# Altium integrated library Altium_Fuse.IntLib: 46 symbols
Pins are listed as number, name and electrical type; pins without a type are passive.

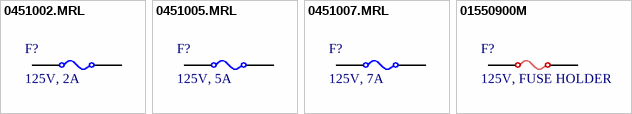
[diagram p0: symbols 0451002.MRL to 01550900M]

## 0451002.MRL
designator F?, comment 125V, 2A
Surface Mount Fuses 125VAC 2A .0367ohms 451 NANO2; Manufacturer: Littelfuse; Manufacturer Part Number: 0451002.MRL; Fuse Type: Fast Blow; Threshold Current: 50 A; ComponentLink1Description: Datasheet; ComponentLink1URL: https://www.mouser.com/datasheet/2/240/media-3320775.pdf; Hold Current: 2A; Supplier 1 URL: https://www.mouser.com/ProductDetail/Littelfuse/0451002.MRL?qs=KOeOmFnJLTp7piF6A1IXgQ%3D%3D; Supplier 2 URL: N/A; Supplier 3 URL: N/A; Threshold Voltage: 125 V; Value: 125V, 2A; Mount: SMT/SMD; Package / Case: 2410; Packaging: Tape and Reel; Supplier 1: Mouser; Supplier 1 Part Number: 576-0451002.MRL; Supplier 2: Digi-Key; Supplier 2 Part Number: N/A; Supplier 3: thegioiic; Supplier 3 Part Number: N/A; LCSC Part #: C99547
footprint FUSE_SMD_2410 (Chip Diode, 2-Leads, Body 6.10x2.70mm, IPC Medium Density)
pins: 0, 1

## 0451005.MRL
designator F?, comment 125V, 5A
Surface Mount Fuses 125VAC 5A .0367ohms 451 NANO2; Manufacturer: Littelfuse; Manufacturer Part Number: 0451005.MRL; Fuse Type: Fast Blow; Threshold Current: 50 A; ComponentLink1Description: Datasheet; ComponentLink1URL: https://www.mouser.com/datasheet/2/240/media-3320775.pdf; Hold Current: 5A; Supplier 1 URL: https://www.mouser.com/ProductDetail/Littelfuse/0451005.MRL?qs=bpnLQM2ZShz7kyOW1vb2Jg%3D%3D; Supplier 2 URL: N/A; Supplier 3 URL: N/A; Threshold Voltage: 125 V; Value: 125V, 5A; Mount: SMT/SMD; Package / Case: 2410; Packaging: Tape and Reel; Supplier 1: Mouser; Supplier 1 Part Number: 576-0451005.MRL; Supplier 2: Digi-Key; Supplier 2 Part Number: N/A; Supplier 3: thegioiic; Supplier 3 Part Number: N/A; LCSC Part #: C48467
footprint FUSE_SMD_2410 (Chip Diode, 2-Leads, Body 6.10x2.70mm, IPC Medium Density)
pins: 0, 1

## 0451007.MRL
designator F?, comment 125V, 7A
Surface Mount Fuses 125VAC 7A .0367ohms 451 NANO2; Manufacturer: Littelfuse; Manufacturer Part Number: 0451007.MRL; Fuse Type: Fast Blow; Threshold Current: 50 A; ComponentLink1Description: Datasheet; ComponentLink1URL: https://www.mouser.com/datasheet/2/240/media-3320775.pdf; Hold Current: 7A; Supplier 1 URL: https://www.mouser.com/ProductDetail/Littelfuse/0451002.MRL?qs=KOeOmFnJLTp7piF6A1IXgQ%3D%3D; Supplier 2 URL: N/A; Supplier 3 URL: N/A; Threshold Voltage: 125 V; Value: 125V, 7A; Mount: SMT/SMD; Package / Case: 2410; Packaging: Tape and Reel; Supplier 1: Mouser; Supplier 1 Part Number: 576-0451007.MRL; Supplier 2: Digi-Key; Supplier 2 Part Number: N/A; Supplier 3: thegioiic; Supplier 3 Part Number: N/A; LCSC Part #: C99548
footprint FUSE_SMD_2410 (Chip Diode, 2-Leads, Body 6.10x2.70mm, IPC Medium Density)
pins: 0, 1

## 01550900M
designator F?, comment 125V, FUSE HOLDER
Fuse Holder ACS NANO HLDR; Manufacturer: Littelfuse; Manufacturer Part Number: 01550900M; Fuse Type: Fast Blow; Hold Current: TBD; Threshold Current: 10 A; ComponentLink1Description: Datasheet; ComponentLink1URL: https://www.lcsc.com/datasheet/C108518.pdf; Supplier 1 URL: https://www.mouser.com/ProductDetail/Littelfuse/01550900M?qs=DDoybve0rC%252BTXq1hqi5X1g%3D%3D; Supplier 2 URL: N/A; Supplier 3 URL: N/A; Threshold Voltage: 125 V; Value: 125V, FUSE HOLDER; Mount: SMT/SMD; Package / Case: 2410; Packaging: Tape and Reel; Supplier 1: Mouser; Supplier 1 Part Number: 576-01550900M; Supplier 2: Digi-Key; Supplier 2 Part Number: N/A; Supplier 3: thegioiic; Supplier 3 Part Number: N/A; LCSC Part #: C108518
footprint 01550900M (Chip Diode, 2-Leads, Body 6.10x2.70mm, IPC Medium Density)
pins: 0, 1


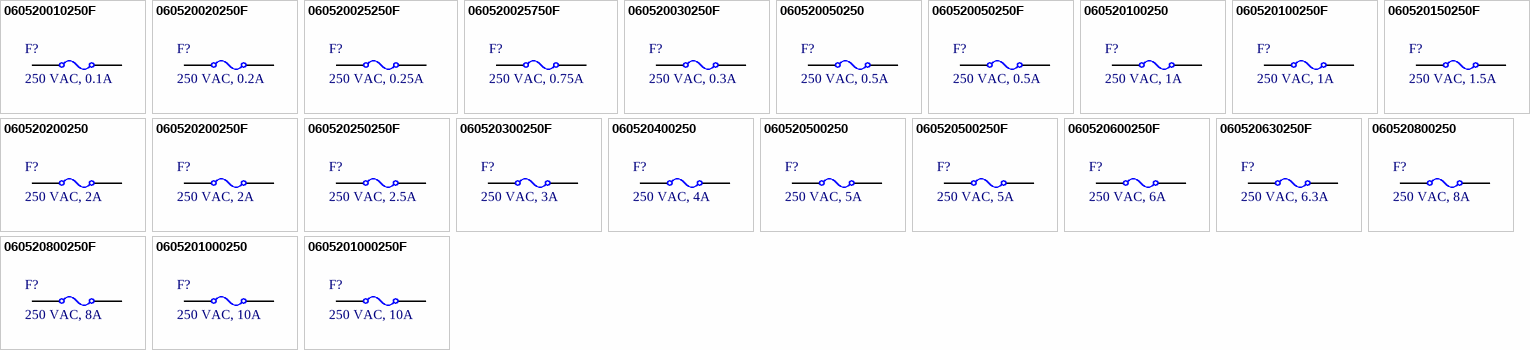
[diagram p1: symbols 060520010250F to 0605201000250F]

## 060520010250F
designator F?, comment 250 VAC, 0.1A
Glass Fuse, Size 0520, 250 VAC, 0.1A, F; Manufacturer: Bel Fuse; Manufacturer Part Number: 5ST100-R; Threshold Voltage: 250VAC; Threshold Current: 35A ( 250VAC); Hold Current: 0.1A; Fuse speed: F; ComponentLink1Description: Datasheet; ComponentLink1URL: https://www.belfuse.com/resources/datasheets/circuitprotection/ds-cp-5st-5stp-series.pdf; Supplier 1 URL: https://www.mouser.vn/ProductDetail/Bel-Fuse/5ST-100-R?qs=MvPYbBWWJysvyCTUIgtvFw%3D%3D; Supplier 2 URL: https://www.digikey.com/en/products/detail/bel-fuse-inc/5ST-100-R/1009010; Supplier 3 URL: https://www.thegioiic.com/cau-chi-ong-thuy-tinh-0-1a-5x20mm-toc-do-f; Value: 250 VAC, 0.1A; Operating Temperature Max: + 85 C; Operating Temperature Min: - 40 C; Package / Case: 0520; Packaging: Tape and Reel; Supplier 1: Mouser; Supplier 1 Part Number: 530-5ST100-R; Supplier 2: Digi-Key; Supplier 2 Part Number: 507-1238-ND; Supplier 3: thegioiic; Supplier 3 Part Number: N/A; Mount: Holder / Clip; LCSC Part #: N/A
footprint Fuse_Clip_0520 (Clip Fuse, Size 0520)
pins: 0, 1

## 060520020250F
designator F?, comment 250 VAC, 0.2A
Glass Fuse, Size 0520, 250 VAC, 0.2A, F; Manufacturer: Littelfuse; Manufacturer Part Number: 0217.200MXP; Threshold Voltage: 250VAC; Threshold Current: 35A ( 250VAC); Hold Current: 0.2A; Fuse speed: F; ComponentLink1Description: Datasheet; ComponentLink1URL: https://www.littelfuse.com/~/media/electronics/datasheets/fuses/littelfuse_fuse_217_datasheet.pdf.pdf; Supplier 1 URL: https://www.mouser.vn/ProductDetail/Littelfuse/0217.200MXP?qs=LpXnx4WbYtByvcMiHPFRdQ%3D%3D; Supplier 2 URL: https://www.digikey.com/en/products/detail/bel-fuse-inc/5MF-1-5-R/1009035; Supplier 3 URL: https://www.thegioiic.com/cau-chi-ong-thuy-tinh-0-2a-5x20mm-toc-do-f; Value: 250 VAC, 0.2A; Operating Temperature Max: + 85 C; Operating Temperature Min: - 40 C; Package / Case: 0520; Packaging: Tape and Reel; Supplier 1: Mouser; Supplier 1 Part Number: 576-0217.200MXP; Supplier 2: Digi-Key; Supplier 2 Part Number: 507-1263-ND; Supplier 3: thegioiic; Supplier 3 Part Number: N/A; Mount: Holder / Clip; LCSC Part #: N/A
footprint Fuse_Clip_0520 (Clip Fuse, Size 0520)
pins: 0, 1

## 060520025250F
designator F?, comment 250 VAC, 0.25A
Glass Fuse, Size 0520, 250 VAC, 0.25A, F; Manufacturer: Littelfuse; Manufacturer Part Number: 0217.250MXP; Threshold Voltage: 250VAC; Threshold Current: 35A ( 250VAC); Hold Current: 0.25A; Fuse speed: F; ComponentLink1Description: Datasheet; ComponentLink1URL: https://www.littelfuse.com/~/media/electronics/datasheets/fuses/littelfuse_fuse_217_datasheet.pdf.pdf; Supplier 1 URL: https://www.mouser.vn/ProductDetail/Littelfuse/0217.250MXP?qs=KOeOmFnJLTo%252BGMWHwtjXYA%3D%3D; Supplier 2 URL: https://www.digikey.com/en/products/detail/littelfuse-inc/0217-250MXP/777531?s=N4IgTCBcDaIAxgIwHYB0YCscCyANACiALoC%2BQA; Supplier 3 URL: https://www.thegioiic.com/cau-chi-ong-thuy-tinh-0-25a-5x20mm-toc-do-f; Value: 250 VAC, 0.25A; Operating Temperature Max: + 85 C; Operating Temperature Min: - 40 C; Package / Case: 0520; Packaging: Tape and Reel; Supplier 1: Mouser; Supplier 1 Part Number: 576-0217.250MXP; Supplier 2: Digi-Key; Supplier 2 Part Number: F1718-ND; Supplier 3: thegioiic; Supplier 3 Part Number: N/A; Mount: Holder / Clip; LCSC Part #: N/A
footprint Fuse_Clip_0520 (Clip Fuse, Size 0520)
pins: 0, 1

## 060520025750F
designator F?, comment 250 VAC, 0.75A
Glass Fuse, Size 0520, 250 VAC, 0.75A, F; Manufacturer: Bussmann / Eaton; Manufacturer Part Number: BK/GMA-750-R; Threshold Voltage: 250VAC; Threshold Current: 35A; Hold Current: 0.75A; Fuse speed: F; ComponentLink1Description: Datasheet; ComponentLink1URL: https://www.eaton.com/content/dam/eaton/products/electronic-components/resources/data-sheet/eaton-gma-time-delay-glass-tube-fuses-data-sheet.pdf; Supplier 1 URL: https://www.mouser.vn/ProductDetail/Bussmann-Eaton/BK-GMA-750-R?qs=St27ATL478tI49%252BCTEEZkw%3D%3D; Supplier 2 URL: https://www.digikey.com/en/products/detail/eaton-electronics-division/BK-GMA-750-R/1023987?s=N4IgTCBcDaIAQCEDSB6A4gWQIIFoDsArAAw4BKIAugL5A; Supplier 3 URL: https://www.thegioiic.com/cau-chi-ong-thuy-tinh-0-75a-5x20mm-toc-do-f; Value: 250 VAC, 0.75A; Operating Temperature Max: + 85 C; Operating Temperature Min: - 40 C; Package / Case: 0520; Packaging: Tape and Reel; Supplier 1: Mouser; Supplier 1 Part Number: 504-BK/GMA-750-R; Supplier 2: Digi-Key; Supplier 2 Part Number: 283-2869-ND; Supplier 3: thegioiic; Supplier 3 Part Number: N/A; Mount: Holder / Clip; LCSC Part #: N/A
footprint Fuse_Clip_0520 (Clip Fuse, Size 0520)
pins: 0, 1

## 060520030250F
designator F?, comment 250 VAC, 0.3A
Glass Fuse, Size 0520, 250 VAC, 0.3A, F; Manufacturer: Littelfuse; Manufacturer Part Number: 0235.300MXP; Threshold Voltage: 250VAC; Threshold Current: 10kA ( 125VAC); Hold Current: 0.3A; Fuse speed: F; ComponentLink1Description: Datasheet; ComponentLink1URL: https://www.littelfuse.com/~/media/electronics/datasheets/fuses/littelfuse_fuse_217_datasheet.pdf.pdf; Supplier 1 URL: https://www.mouser.vn/ProductDetail/Littelfuse/0235.300MXP?qs=qI%252BDxnNls1%2FlgYUhjxKUBg%3D%3D; Supplier 2 URL: https://www.digikey.com/en/products/detail/littelfuse-inc/0235-300MXP/778120?s=N4IgTCBcDaIAxgMwFYB0i5wLIA0AKIAugL5A; Supplier 3 URL: https://www.thegioiic.com/cau-chi-ong-thuy-tinh-0-3a-5x20mm-toc-do-f; Value: 250 VAC, 0.3A; Operating Temperature Max: + 85 C; Operating Temperature Min: - 40 C; Package / Case: 0520; Packaging: Tape and Reel; Supplier 1: Mouser; Supplier 1 Part Number: 576-0235.300MXP; Supplier 2: Digi-Key; Supplier 2 Part Number: F4717-ND; Supplier 3: thegioiic; Supplier 3 Part Number: N/A; Mount: Holder / Clip; LCSC Part #: N/A
footprint Fuse_Clip_0520 (Clip Fuse, Size 0520)
pins: 0, 1

## 060520050250
designator F?, comment 250 VAC, 0.5A
Ceramic Fuse, Size 0520, 250 VAC, 0.5A; Manufacturer: Littelfuse; Manufacturer Part Number: 0215.500MXP; Threshold Voltage: 250VAC; Threshold Current: 1,5kA (250VAC); Fuse speed: N; Hold Current: 0.5A; ComponentLink1Description: Datasheet; ComponentLink1URL: https://www.littelfuse.com/~/media/electronics/datasheets/fuses/littelfuse_fuse_217_datasheet.pdf.pdf; Supplier 1 URL: https://www.mouser.vn/ProductDetail/Littelfuse/0215.500MXP?qs=qI%252BDxnNls1%2Fdlp%2FQaMILDA%3D%3D; Supplier 2 URL: https://www.digikey.com/en/products/detail/littelfuse-inc/0215-500MXP/777422?s=N4IgTCBcDaIAxgIwFYB0y5wLIA0AKIAugL5A; Supplier 3 URL: https://www.thegioiic.com/cau-chi-su-0-5a-5x20mm; Value: 250 VAC, 0.5A; Operating Temperature Max: + 85 C; Operating Temperature Min: - 40 C; Package / Case: 0520; Packaging: Tape and Reel; Supplier 1: Mouser; Supplier 1 Part Number: 576-0215.500MXP; Supplier 2: Digi-Key; Supplier 2 Part Number: F3597-ND; Supplier 3: thegioiic; Supplier 3 Part Number: N/A; Mount: Holder / Clip; LCSC Part #: N/A
footprint Fuse_Clip_0520 (Clip Fuse, Size 0520)
pins: 0, 1

## 060520050250F
designator F?, comment 250 VAC, 0.5A
Glass Fuse, Size 0520, 250 VAC, 0.5A, F; Manufacturer: Littelfuse; Manufacturer Part Number: 0217.500HXP; Threshold Voltage: 250VAC; Threshold Current: 35A (250VAC); Hold Current: 0.5A; Fuse speed: F; ComponentLink1Description: Datasheet; ComponentLink1URL: https://www.littelfuse.com/~/media/electronics/datasheets/fuses/littelfuse_fuse_217_datasheet.pdf.pdf; Supplier 1 URL: https://www.mouser.vn/ProductDetail/Littelfuse/0217.500HXP?qs=LpXnx4WbYtBiNp2qBalYRA%3D%3D; Supplier 2 URL: https://www.digikey.com/en/products/detail/littelfuse-inc/0217-500HXP/777105?s=N4IgTCBcDaIAxgIwHYB0BWOcASANACiALoC%2BQA; Supplier 3 URL: https://www.thegioiic.com/cau-chi-ong-thuy-tinh-0-5a-5x20mm-toc-do-f; Value: 250 VAC, 0.5A; Operating Temperature Max: + 85 C; Operating Temperature Min: - 40 C; Package / Case: 0520; Packaging: Tape and Reel; Supplier 1: Mouser; Supplier 1 Part Number: 576-0217.500HXP; Supplier 2: Digi-Key; Supplier 2 Part Number: F2389-ND; Supplier 3: thegioiic; Supplier 3 Part Number: N/A; Mount: Holder / Clip; LCSC Part #: N/A
footprint Fuse_Clip_0520 (Clip Fuse, Size 0520)
pins: 0, 1

## 060520100250
designator F?, comment 250 VAC, 1A
Ceramic Fuse, Size 0520, 250 VAC, 1A; Manufacturer: Littelfuse; Manufacturer Part Number: 0215001.MXP; Threshold Voltage: 250VAC; Threshold Current: 1.5kA (250VAC); Fuse speed: N; Hold Current: 1A; ComponentLink1Description: Datasheet; ComponentLink1URL: https://www.littelfuse.com/~/media/electronics/datasheets/fuses/littelfuse_fuse_234_datasheet.pdf.pdf; Supplier 1 URL: https://www.mouser.vn/ProductDetail/Littelfuse/0215001.MXP?qs=ar9f0rk5DXA%2FCWd1HPfSGA%3D%3D; Supplier 2 URL: https://www.digikey.com/en/products/detail/littelfuse-inc/0215001-MXP/777431?s=N4IgTCBcDaIAxgIwFY50QOgLIA0AKIAugL5A; Supplier 3 URL: https://www.thegioiic.com/cau-chi-su-1a-5x20mm; Value: 250 VAC, 1A; Operating Temperature Max: + 85 C; Operating Temperature Min: - 40 C; Package / Case: 0520; Packaging: Tape and Reel; Supplier 1: Mouser; Supplier 1 Part Number: 576-0215001.MXP; Supplier 2: Digi-Key; Supplier 2 Part Number: F1696-ND; Supplier 3: thegioiic; Supplier 3 Part Number: N/A; Mount: Holder / Clip; LCSC Part #: N/A
footprint Fuse_Clip_0520 (Clip Fuse, Size 0520)
pins: 0, 1

## 060520100250F
designator F?, comment 250 VAC, 1A
Glass Fuse, Size 0520, 250 VAC, 1A, F; Manufacturer: Littelfuse; Manufacturer Part Number: 0217001.MXP; Threshold Voltage: 250VAC; Threshold Current: 35A (250VAC); Hold Current: 1A; Fuse speed: F; ComponentLink1Description: Datasheet; ComponentLink1URL: https://www.littelfuse.com/~/media/electronics/datasheets/fuses/littelfuse_fuse_234_datasheet.pdf.pdf; Supplier 1 URL: https://www.mouser.vn/ProductDetail/Littelfuse/0217001.MXP?qs=8QfiMw8FY5O6uJ5P97zz7g%3D%3D; Supplier 2 URL: https://www.digikey.com/en/products/detail/littelfuse-inc/0217001-MXP/777543?s=N4IgTCBcDaIAQAYwEYDsCHIHQFkAaACiALoC%2BQA; Supplier 3 URL: https://www.thegioiic.com/cau-chi-ong-thuy-tinh-1a-5x20mm-toc-do-f; Value: 250 VAC, 1A; Operating Temperature Max: + 85 C; Operating Temperature Min: - 40 C; Package / Case: 0520; Packaging: Tape and Reel; Supplier 1: Mouser; Supplier 1 Part Number: 576-0217001.MXP; Supplier 2: Digi-Key; Supplier 2 Part Number: F5929-ND; Supplier 3: thegioiic; Supplier 3 Part Number: N/A; Mount: Holder / Clip; LCSC Part #: N/A
footprint Fuse_Clip_0520 (Clip Fuse, Size 0520)
pins: 0, 1

## 060520150250F
designator F?, comment 250 VAC, 1.5A
Glass Fuse, Size 0520, 250 VAC, 1.5A, F; Manufacturer: Bel Fuse; Manufacturer Part Number: 0235.300MXP; Threshold Voltage: 250VAC; Threshold Current: 10kA ( 125VAC); Hold Current: 1.5A; Fuse speed: F; ComponentLink1Description: Datasheet; ComponentLink1URL: https://www.belfuse.com/resources/datasheets/circuitprotection/ds-cp-5mf-5mfp-series.pdf; Supplier 1 URL: https://www.mouser.vn/ProductDetail/Bel-Fuse/5MF-1.5-R?qs=MvPYbBWWJytyVTk9PnzKGA%3D%3D; Supplier 2 URL: https://www.digikey.com/en/products/detail/bel-fuse-inc/5MF-1-5-R/1009035; Supplier 3 URL: https://www.thegioiic.com/cau-chi-ong-thuy-tinh-1-5a-5x20mm-toc-do-f; Value: 250 VAC, 1.5A; Operating Temperature Max: + 85 C; Operating Temperature Min: - 40 C; Package / Case: 0520; Packaging: Tape and Reel; Supplier 1: Mouser; Supplier 1 Part Number: 576-0235.300MXP; Supplier 2: Digi-Key; Supplier 2 Part Number: F4717-ND; Supplier 3: thegioiic; Supplier 3 Part Number: N/A; Mount: Holder / Clip; LCSC Part #: N/A
footprint Fuse_Clip_0520 (Clip Fuse, Size 0520)
pins: 0, 1

## 060520200250
designator F?, comment 250 VAC, 2A
Ceramic Fuse, Size 0520, 250 VAC, 2A; Manufacturer: Littelfuse; Manufacturer Part Number: 0215002.HXP; Threshold Voltage: 250VAC; Threshold Current: 1.5kA (250VAC); Fuse speed: N; Hold Current: 2A; ComponentLink1Description: Datasheet; ComponentLink1URL: https://www.littelfuse.com/~/media/electronics/datasheets/fuses/littelfuse_fuse_234_datasheet.pdf.pdf; Supplier 1 URL: https://www.mouser.vn/ProductDetail/Littelfuse/0215002.HXP?qs=KOeOmFnJLTqrn80%2F88U61A%3D%3D; Supplier 2 URL: https://www.digikey.com/en/products/detail/littelfuse-inc/0215002-HXP/777432?s=N4IgTCBcDaIAxgIwFY4IHQAkAaAFEAugL5A; Supplier 3 URL: https://www.thegioiic.com/cau-chi-su-2a-5x20mm; Value: 250 VAC, 2A; Operating Temperature Max: + 85 C; Operating Temperature Min: - 40 C; Package / Case: 0520; Packaging: Tape and Reel; Supplier 1: Mouser; Supplier 1 Part Number: 576-0215002.HXP; Supplier 2: Digi-Key; Supplier 2 Part Number: F2662-ND; Supplier 3: thegioiic; Supplier 3 Part Number: N/A; Mount: Holder / Clip; LCSC Part #: N/A
footprint Fuse_Clip_0520 (Clip Fuse, Size 0520)
pins: 0, 1

## 060520200250F
designator F?, comment 250 VAC, 2A
Glass Fuse, Size 0520, 250 VAC, 2A, F; Manufacturer: Littelfuse; Manufacturer Part Number: 0217002.MXP; Threshold Voltage: 250VAC; Threshold Current: 35A (250VAC); Hold Current: 2A; Fuse speed: F; ComponentLink1Description: Datasheet; ComponentLink1URL: https://www.littelfuse.com/~/media/electronics/datasheets/fuses/littelfuse_fuse_234_datasheet.pdf.pdf; Supplier 1 URL: https://www.mouser.vn/ProductDetail/Littelfuse/0217002.MXP?qs=YKoktUZms5IWTPy42qy8YA%3D%3D; Supplier 2 URL: https://www.digikey.com/en/products/detail/littelfuse-inc/0217002-MXP/777545?s=N4IgTCBcDaIAQAYwEYDsCkDoCyANACiALoC%2BQA; Supplier 3 URL: https://www.thegioiic.com/cau-chi-ong-thuy-tinh-2a-5x20mm-toc-do-f; Value: 250 VAC, 2A; Operating Temperature Max: + 85 C; Operating Temperature Min: - 40 C; Package / Case: 0520; Packaging: Tape and Reel; Supplier 1: Mouser; Supplier 1 Part Number: 576-0217002.MXP; Supplier 2: Digi-Key; Supplier 2 Part Number: F1723-ND; Supplier 3: thegioiic; Supplier 3 Part Number: N/A; Mount: Holder / Clip; LCSC Part #: N/A
footprint Fuse_Clip_0520 (Clip Fuse, Size 0520)
pins: 0, 1

## 060520250250F
designator F?, comment 250 VAC, 2.5A
Glass Fuse, Size 0520, 250 VAC, 2.5A, F; Manufacturer: Littelfuse; Manufacturer Part Number: 021702.5TXP; Threshold Voltage: 250VAC; Threshold Current: 35A (250VAC); Hold Current: 2.5A; Fuse speed: F; ComponentLink1Description: Datasheet; ComponentLink1URL: https://www.littelfuse.com/~/media/electronics/datasheets/fuses/littelfuse_fuse_234_datasheet.pdf.pdf; Supplier 1 URL: https://www.mouser.vn/ProductDetail/Littelfuse/021702.5TXP?qs=Co4VkB5J4%2FtlATVasM8PdQ%3D%3D; Supplier 2 URL: https://www.digikey.com/en/products/detail/littelfuse-inc/021702-5TXP/3305622?s=N4IgTCBcDaIAxgIwHYEDoCsAVAGgBRAF0BfIA; Supplier 3 URL: https://www.thegioiic.com/cau-chi-ong-thuy-tinh-2-5a-5x20mm-toc-do-f; Value: 250 VAC, 2.5A; Operating Temperature Max: + 85 C; Operating Temperature Min: - 40 C; Package / Case: 0520; Packaging: Tape and Reel; Supplier 1: Mouser; Supplier 1 Part Number: 576-021702.5TXP; Supplier 2: Digi-Key; Supplier 2 Part Number: F4260-ND; Supplier 3: thegioiic; Supplier 3 Part Number: N/A; Mount: Holder / Clip; LCSC Part #: N/A
footprint Fuse_Clip_0520 (Clip Fuse, Size 0520)
pins: 0, 1

## 060520300250F
designator F?, comment 250 VAC, 3A
Glass Fuse, Size 0520, 250 VAC, 3A, F; Manufacturer: Littelfuse; Manufacturer Part Number: 0235003.HXP; Threshold Voltage: 250VAC; Threshold Current: 10kA (125VAC); Hold Current: 3A; Fuse speed: F; ComponentLink1Description: Datasheet; ComponentLink1URL: https://www.littelfuse.com/~/media/electronics/datasheets/fuses/littelfuse_fuse_234_datasheet.pdf.pdf; Supplier 1 URL: https://www.mouser.vn/ProductDetail/Littelfuse/0235003.HXP?qs=WtG364jHAdx3buZ4LbEsmg%3D%3D; Supplier 2 URL: https://www.digikey.com/en/products/detail/littelfuse-inc/0235003-HXP/778150?s=N4IgTCBcDaIAxgMwFY50QOgBIA0AKIAugL5A; Supplier 3 URL: https://www.thegioiic.com/cau-chi-ong-thuy-tinh-3a-5x20mm-toc-do-f; Value: 250 VAC, 3A; Operating Temperature Max: + 85 C; Operating Temperature Min: - 40 C; Package / Case: 0520; Packaging: Tape and Reel; Supplier 1: Mouser; Supplier 1 Part Number: 576-0235003.HXP; Supplier 2: Digi-Key; Supplier 2 Part Number: F2682-ND; Supplier 3: thegioiic; Supplier 3 Part Number: N/A; Mount: Holder / Clip; LCSC Part #: N/A
footprint Fuse_Clip_0520 (Clip Fuse, Size 0520)
pins: 0, 1

## 060520400250
designator F?, comment 250 VAC, 4A
Ceramic Fuse, Size 0520, 250 VAC, 4A; Manufacturer: Littelfuse; Manufacturer Part Number: 0215004.MXP; Threshold Voltage: 250VAC; Threshold Current: 1.5 kA (250VAC); Fuse speed: N; Hold Current: 4A; ComponentLink1Description: Datasheet; ComponentLink1URL: https://www.littelfuse.com/media?resourcetype=datasheets&itemid=a0d11841-302e-49a3-9086-a6d43e30edf0&filename=littelfuse-fuse-215-datasheet; Supplier 1 URL: https://www.mouser.vn/ProductDetail/Littelfuse/0215004.MXP?qs=bpnLQM2ZShyhLPqerLPL3g%3D%3D; Supplier 2 URL: https://www.digikey.com/en/products/detail/littelfuse-inc/0215004-MXP/777437?s=N4IgTCBcDaIAxgIwFY5wCwDoCyANACiALoC%2BQA; Supplier 3 URL: https://www.thegioiic.com/cau-chi-su-4a-5x20mm; Value: 250 VAC, 4A; Operating Temperature Max: + 85 C; Operating Temperature Min: - 40 C; Package / Case: 0520; Packaging: Tape and Reel; Supplier 1: Mouser; Supplier 1 Part Number: 576-0215004.MXP; Supplier 2: Digi-Key; Supplier 2 Part Number: F1697-ND; Supplier 3: thegioiic; Supplier 3 Part Number: N/A; Mount: Holder / Clip; LCSC Part #: N/A
footprint Fuse_Clip_0520 (Clip Fuse, Size 0520)
pins: 0, 1

## 060520500250
designator F?, comment 250 VAC, 5A
Ceramic Fuse, Size 0520, 250 VAC, 5A; Manufacturer: Littelfuse; Manufacturer Part Number: 0215005.HXP; Threshold Voltage: 250VAC; Threshold Current: 1.5kA (250VAC); Fuse speed: N; Hold Current: 5A; ComponentLink1Description: Datasheet; ComponentLink1URL: https://www.littelfuse.com/~/media/electronics/datasheets/fuses/littelfuse_fuse_234_datasheet.pdf.pdf; Supplier 1 URL: https://www.mouser.vn/ProductDetail/Littelfuse/0215005.HXP?qs=rkYlxpo0zrFldKFCO%252BlKVQ%3D%3D; Supplier 2 URL: https://www.digikey.com/en/products/detail/littelfuse-inc/0215005-HXP/777438?s=N4IgTCBcDaIAxgIwFY52QOgBIA0AKIAugL5A; Supplier 3 URL: https://www.thegioiic.com/cau-chi-su-5a-5x20mm; Value: 250 VAC, 5A; Operating Temperature Max: + 85 C; Operating Temperature Min: - 40 C; Package / Case: 0520; Packaging: Tape and Reel; Supplier 1: Mouser; Supplier 1 Part Number: 576-0215005.HXP; Supplier 2: Digi-Key; Supplier 2 Part Number: F2666-ND; Supplier 3: thegioiic; Supplier 3 Part Number: N/A; Mount: Holder / Clip; LCSC Part #: N/A
footprint Fuse_Clip_0520 (Clip Fuse, Size 0520)
pins: 0, 1

## 060520500250F
designator F?, comment 250 VAC, 5A
Glass Fuse, Size 0520, 250 VAC, 5A, F; Manufacturer: Littelfuse; Manufacturer Part Number: 0217005.MXP; Threshold Voltage: 250VAC; Threshold Current: 50A (125VAC); Hold Current: 5A; Fuse speed: F; ComponentLink1Description: Datasheet; ComponentLink1URL: https://www.littelfuse.com/~/media/electronics/datasheets/fuses/littelfuse_fuse_234_datasheet.pdf.pdf; Supplier 1 URL: https://www.mouser.vn/ProductDetail/Littelfuse/0217005.MXP?qs=8QfiMw8FY5N%2FZH431hpxSA%3D%3D; Supplier 2 URL: https://www.digikey.com/en/products/detail/littelfuse-inc/0217005-MXP/777549?s=N4IgTCBcDaIAQAYwEYDsCEFYB0BZAGgAogC6AvkA; Supplier 3 URL: https://www.thegioiic.com/cau-chi-ong-thuy-tinh-5a-5x20mm-toc-do-f; Value: 250 VAC, 5A; Operating Temperature Max: + 85 C; Operating Temperature Min: - 40 C; Package / Case: 0520; Packaging: Tape and Reel; Supplier 1: Mouser; Supplier 1 Part Number: 576-0217005.MXP; Supplier 2: Digi-Key; Supplier 2 Part Number: F1725-ND; Supplier 3: thegioiic; Supplier 3 Part Number: N/A; Mount: Holder / Clip; LCSC Part #: N/A
footprint Fuse_Clip_0520 (Clip Fuse, Size 0520)
pins: 0, 1

## 060520600250F
designator F?, comment 250 VAC, 6A
Glass Fuse, Size 0520, 250 VAC, 6A, F; Manufacturer: Littelfuse; Manufacturer Part Number: 0234006.MXP; Threshold Voltage: 250VAC; Threshold Current: 10kA (125VAC); Hold Current: 6A; Fuse speed: F; ComponentLink1Description: Datasheet; ComponentLink1URL: https://www.littelfuse.com/~/media/electronics/datasheets/fuses/littelfuse_fuse_234_datasheet.pdf.pdf; Supplier 1 URL: https://www.mouser.vn/ProductDetail/Littelfuse/0234006.MXP?qs=YKoktUZms5InNPE1Qna0Cg%3D%3D; Supplier 2 URL: https://www.digikey.com/en/products/detail/littelfuse-inc/0234006-MXP/778084; Supplier 3 URL: https://www.thegioiic.com/cau-chi-ong-thuy-tinh-6a-5x20mm-toc-do-f; Value: 250 VAC, 6A; Operating Temperature Max: + 85 C; Operating Temperature Min: - 40 C; Package / Case: 0520; Packaging: Tape and Reel; Supplier 1: Mouser; Supplier 1 Part Number: 576-0234006.MXP; Supplier 2: Digi-Key; Supplier 2 Part Number: F2694-ND; Supplier 3: thegioiic; Supplier 3 Part Number: N/A; Mount: Holder / Clip; LCSC Part #: N/A
footprint Fuse_Clip_0520 (Clip Fuse, Size 0520)
pins: 0, 1

## 060520630250F
designator F?, comment 250 VAC, 6.3A
Glass Fuse, Size 0520, 250 VAC, 6.3A, F; Manufacturer: Littelfuse; Manufacturer Part Number: 021706.3VXP; Threshold Voltage: 250VAC; Threshold Current: 63A (250VAC); Hold Current: 6.3A; Fuse speed: F; ComponentLink1Description: Datasheet; ComponentLink1URL: https://www.littelfuse.com/~/media/electronics/datasheets/fuses/littelfuse_fuse_234_datasheet.pdf.pdf; Supplier 1 URL: https://www.mouser.vn/ProductDetail/Littelfuse/021706.3VXP?qs=Vv6sT79n3zQZ1wGK5TThFg%3D%3D; Supplier 2 URL: https://www.digikey.com/en/products/detail/littelfuse-inc/021706-3VXP/3424969?s=N4IgTCBcDaIAxgIwHY4DYB0BmAagDQAUQBdAXyA; Supplier 3 URL: https://www.thegioiic.com/cau-chi-ong-thuy-tinh-6-3a-5x20mm-toc-do-f; Value: 250 VAC, 6.3A; Operating Temperature Max: + 85 C; Operating Temperature Min: - 40 C; Package / Case: 0520; Packaging: Tape and Reel; Supplier 1: Mouser; Supplier 1 Part Number: 576-021706.3VXP; Supplier 2: Digi-Key; Supplier 2 Part Number: F11027-ND; Supplier 3: thegioiic; Supplier 3 Part Number: N/A; Mount: Holder / Clip; LCSC Part #: N/A
footprint Fuse_Clip_0520 (Clip Fuse, Size 0520)
pins: 0, 1

## 060520800250
designator F?, comment 250 VAC, 8A
Ceramic Fuse, Size 0520, 250 VAC, 8A; Manufacturer: Littelfuse; Manufacturer Part Number: 0215008.MXP; Threshold Voltage: 250VAC; Threshold Current: 1.5kA (250VAC); Fuse speed: N; Hold Current: 8A; ComponentLink1Description: Datasheet; ComponentLink1URL: https://www.littelfuse.com/~/media/electronics/datasheets/fuses/littelfuse_fuse_234_datasheet.pdf.pdf; Supplier 1 URL: https://www.mouser.vn/ProductDetail/Littelfuse/0215008.MXP?qs=qI%252BDxnNls18xZY24y8bA3A%3D%3D; Supplier 2 URL: https://www.digikey.com/en/products/detail/littelfuse-inc/0215008-MXP/777443?s=N4IgTCBcDaIAQAYwEYCsCEA4B0BZAGgAogC6AvkA; Supplier 3 URL: https://www.thegioiic.com/cau-chi-su-8a-5x20mm; Value: 250 VAC, 8A; Operating Temperature Max: + 85 C; Operating Temperature Min: - 40 C; Package / Case: 0520; Packaging: Tape and Reel; Supplier 1: Mouser; Supplier 1 Part Number: 576-0215008.MXP; Supplier 2: Digi-Key; Supplier 2 Part Number: F4613-ND; Supplier 3: thegioiic; Supplier 3 Part Number: N/A; Mount: Holder / Clip; LCSC Part #: N/A
footprint Fuse_Clip_0520 (Clip Fuse, Size 0520)
pins: 0, 1

## 060520800250F
designator F?, comment 250 VAC, 8A
Glass Fuse, Size 0520, 250 VAC, 8A, F; Manufacturer: Littelfuse; Manufacturer Part Number: 0217008.MXP; Threshold Voltage: 250VAC; Threshold Current: 80A (125VAC); Hold Current: 8A; Fuse speed: F; ComponentLink1Description: Datasheet; ComponentLink1URL: https://www.littelfuse.com/~/media/electronics/datasheets/fuses/littelfuse_fuse_234_datasheet.pdf.pdf; Supplier 1 URL: https://www.mouser.vn/ProductDetail/Littelfuse/0217008.MXP?qs=8QfiMw8FY5N6Hjj4UqrSQw%3D%3D; Supplier 2 URL: https://www.digikey.com/en/products/detail/littelfuse-inc/0217008-MXP/777551?s=N4IgTCBcDaIAxgIwHY5wBwDoCyANACiALoC%2BQA; Supplier 3 URL: https://www.thegioiic.com/cau-chi-ong-thuy-tinh-8a-5x20mm-toc-do-f; Value: 250 VAC, 8A; Operating Temperature Max: + 85 C; Operating Temperature Min: - 40 C; Package / Case: 0520; Packaging: Tape and Reel; Supplier 1: Mouser; Supplier 1 Part Number: 576-0217008.MXP; Supplier 2: Digi-Key; Supplier 2 Part Number: F4635-ND; Supplier 3: thegioiic; Supplier 3 Part Number: N/A; Mount: Holder / Clip; LCSC Part #: N/A
footprint Fuse_Clip_0520 (Clip Fuse, Size 0520)
pins: 0, 1

## 0605201000250
designator F?, comment 250 VAC, 10A
Ceramic Fuse, Size 0520, 250 VAC, 10A; Manufacturer: Littelfuse; Manufacturer Part Number: 0215010.MXP; Threshold Voltage: 250VAC; Threshold Current: 1.5kA (250VAC); Fuse speed: N; Hold Current: 10A; ComponentLink1Description: Datasheet; ComponentLink1URL: https://www.littelfuse.com/~/media/electronics/datasheets/fuses/littelfuse_fuse_234_datasheet.pdf.pdf; Supplier 1 URL: https://www.mouser.vn/ProductDetail/Littelfuse/0215010.MXP?qs=qI%252BDxnNls1%252BmXG81o%252BQ0mA%3D%3D; Supplier 2 URL: https://www.digikey.com/en/products/detail/littelfuse-inc/0215010-MXP/777449; Supplier 3 URL: https://www.thegioiic.com/cau-chi-su-10a-5x20mm; Value: 250 VAC, 10A; Operating Temperature Max: + 85 C; Operating Temperature Min: - 40 C; Package / Case: 0520; Packaging: Tape and Reel; Supplier 1: Mouser; Supplier 1 Part Number: 576-0215010.MXP; Supplier 2: Digi-Key; Supplier 2 Part Number: F1699-ND; Supplier 3: thegioiic; Supplier 3 Part Number: N/A; Mount: Holder / Clip; LCSC Part #: N/A
footprint Fuse_Clip_0520 (Clip Fuse, Size 0520)
pins: 0, 1

## 0605201000250F
designator F?, comment 250 VAC, 10A
Glass Fuse, Size 0520, 250 VAC, 10A, F; Manufacturer: Littelfuse; Manufacturer Part Number: 0218010.HXP; Threshold Voltage: 250VAC; Threshold Current: 100A (125VAC); Hold Current: 10A; Fuse speed: F; ComponentLink1Description: Datasheet; ComponentLink1URL: https://www.littelfuse.com/~/media/electronics/datasheets/fuses/littelfuse_fuse_234_datasheet.pdf.pdf; Supplier 1 URL: https://www.mouser.vn/ProductDetail/Littelfuse/0218010.HXP?qs=YKoktUZms5K5aEWQkceb8A%3D%3D; Supplier 2 URL: https://www.digikey.com/en/products/detail/littelfuse-inc/0218010-HXP/777141?s=N4IgTCBcDaIAxgIwA46LgOgBIA0AKIAugL5A; Supplier 3 URL: https://www.thegioiic.com/cau-chi-ong-thuy-tinh-10a-5x20mm-toc-do-f; Value: 250 VAC, 10A; Operating Temperature Max: + 85 C; Operating Temperature Min: - 40 C; Package / Case: 0520; Packaging: Tape and Reel; Supplier 1: Mouser; Supplier 1 Part Number: 576-0218010.HXP; Supplier 2: Digi-Key; Supplier 2 Part Number: F2425-ND; Supplier 3: thegioiic; Supplier 3 Part Number: N/A; Mount: Holder / Clip; LCSC Part #: N/A
footprint Fuse_Clip_0520 (Clip Fuse, Size 0520)
pins: 0, 1


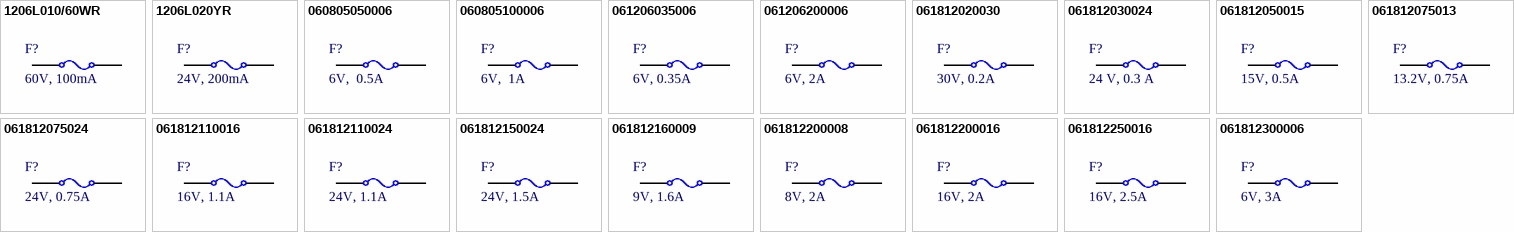
[diagram p2: symbols 1206L010/60WR to 061812300006]

## 1206L010/60WR
designator F?, comment 60V, 100mA
60V 100mA 10A 250mA 1206 Resettable Fuses ROHS; Manufacturer: Littelfuse; Manufacturer Part Number: 1206L010/60WR; Threshold Voltage: 60 V; Threshold Current: 10 A; Hold Current: 100 mA; Trip Current: 250 mA; ComponentLink1Description: Datasheet; ComponentLink1URL: https://lcsc.com/datasheet/lcsc_datasheet_2410121838_Littelfuse-1206L020YR_C207035.pdf; Supplier 1 URL: https://www.mouser.com/ProductDetail/Littelfuse/1206L010-60WR?qs=lM4gFlnEeENS8o0%252BVJMwxw%3D%3D; Supplier 2 URL: https://www.digikey.com/en/products/detail/littelfuse-inc/1206l010-60wr/6234811; Supplier 3 URL: N/A; Value: 60V, 100mA; Mount: SMD/SMT; Package / Case: 1206; Packaging: Tape and Reel; Supplier 1: Mouser; Supplier 1 Part Number: 576-1206L010/60WR; Supplier 2: Digi-Key; Supplier 2 Part Number: F8130TR-ND; Supplier 3: thegioiic; Supplier 3 Part Number: N/A; LCSC Part #: C2153714
footprint Fuse_SMD_1206 (Fuse SMD, size 1206)
pins: 0, 1

## 1206L020YR
designator F?, comment 24V, 200mA
24V 200mA 100A 420mA 1206 Resettable Fuses ROHS; Manufacturer: Littelfuse; Manufacturer Part Number: 1206L020YR; Threshold Voltage: 24 V; Threshold Current: 100 A; Hold Current: 200 mA; Trip Current: 420 mA; ComponentLink1Description: Datasheet; ComponentLink1URL: https://lcsc.com/datasheet/lcsc_datasheet_2410121838_Littelfuse-1206L020YR_C207035.pdf; Supplier 1 URL: https://www.mouser.com/ProductDetail/Littelfuse/1206L020YR?qs=PWhpLWeW8we48TZL2V8mHQ%3D%3D; Supplier 2 URL: https://www.digikey.com/en/products/detail/littelfuse-inc/1206l020yr/455695; Supplier 3 URL: N/A; Value: 24V, 200mA; Mount: SMD/SMT; Package / Case: 1206; Packaging: Tape and Reel; Supplier 1: Mouser; Supplier 1 Part Number: 576-1206L020YR; Supplier 2: Digi-Key; Supplier 2 Part Number: F2109TR-ND; Supplier 3: thegioiic; Supplier 3 Part Number: N/A; LCSC Part #: C207035
footprint Fuse_SMD_1206 (Fuse SMD, size 1206)
pins: 0, 1

## 060805050006
designator F?, comment 6V,  0.5A
Resettable Fuse, Size 0805, 6V, 0.5A; Manufacturer: Littelfuse; Manufacturer Part Number: 0805L050; Threshold Current: 100A; Trip Current: 1A; Threshold Voltage: 6V; Hold Current: 0.5A; ComponentLink1Description: Datasheet; ComponentLink1URL: https://www.littelfuse.com/~/media/electronics/datasheets/resettable_ptcs/littelfuse_ptc_0805l_datasheet.pdf.pdf; Supplier 1 URL: https://www.mouser.vn/ProductDetail/Littelfuse/0805L050WR?qs=SJZ%252BTX%252BI2BS1ufZ22HRodg%3D%3D; Supplier 2 URL: https://www.mouser.vn/ProductDetail/Littelfuse/0805L050WR?qs=SJZ%252BTX%252BI2BS1ufZ22HRodg%3D%3D; Supplier 3 URL: https://www.thegioiic.com/0805l050wr-cau-chi-tu-phuc-hoi-0805-6v-500ma; Value: 6V,  0.5A; Mount: SMD/SMT; Package / Case: 0805; Packaging: Tape and Reel; Supplier 1: Mouser; Supplier 1 Part Number: 576-0805L050; Supplier 2: Digi-Key; Supplier 2 Part Number: F2772TR-ND; Supplier 3: thegioiic; Supplier 3 Part Number: 0805L050WR; LCSC Part #: N/A
footprint Fuse_SMD_0805 (Fuse SMD, size 0805)
pins: 0, 1

## 060805100006
designator F?, comment 6V,  1A
Resettable Fuse, Size 0805, 6V, 1A; Manufacturer: Littelfuse; Manufacturer Part Number: 0805L100; Threshold Current: 40A; Trip Current: 1.95A; Threshold Voltage: 6V; Hold Current: 1A; ComponentLink1Description: Datasheet; ComponentLink1URL: https://www.littelfuse.com/~/media/electronics/datasheets/resettable_ptcs/littelfuse_ptc_0805l_datasheet.pdf.pdf; Supplier 1 URL: https://www.mouser.vn/ProductDetail/Littelfuse/0805L100WR?qs=SJZ%252BTX%252BI2BTMlREVsW49pQ%3D%3D; Supplier 2 URL: https://www.mouser.vn/ProductDetail/Littelfuse/0805L100WR?qs=SJZ%252BTX%252BI2BTMlREVsW49pQ%3D%3D; Supplier 3 URL: https://www.thegioiic.com/0805l100wr-cau-chi-tu-phuc-hoi-0805-6v-1a; Value: 6V,  1A; Mount: SMD/SMT; Package / Case: 0805; Packaging: Tape and Reel; Supplier 1: Mouser; Supplier 1 Part Number: 576-0805L100; Supplier 2: Digi-Key; Supplier 2 Part Number: F2774TR-ND; Supplier 3: thegioiic; Supplier 3 Part Number: 0805L100WR; LCSC Part #: N/A
footprint Fuse_SMD_0805 (Fuse SMD, size 0805)
pins: 0, 1

## 061206035006
designator F?, comment 6V, 0.35A
Resettable Fuse, Size 1206, 6V, 0.35A; Manufacturer: Bourns; Manufacturer Part Number: MF-NSMF035-2; Threshold Current: 100A; Trip Current: 0.75A; Threshold Voltage: 6V; Hold Current: 0.35A; ComponentLink1Description: Datasheet; ComponentLink1URL: https://www.bourns.com/docs/Product-Datasheets/mfnsmf.pdf; Supplier 1 URL: https://www.mouser.vn/ProductDetail/Bourns/MF-NSMF035-2?qs=3eVyCPG4fwnHDrvs%2FGppSw%3D%3D; Supplier 2 URL: https://www.mouser.vn/ProductDetail/Bourns/MF-NSMF035-2?qs=3eVyCPG4fwnHDrvs%2FGppSw%3D%3D; Supplier 3 URL: https://www.thegioiic.com/mf-nsmf035-2-cau-chi-tu-phuc-hoi-1206-6v-0-35a; Value: 6V, 0.35A; Mount: SMD/SMT; Package / Case: 1206; Packaging: Tape and Reel; Supplier 1: Mouser; Supplier 1 Part Number: 652-MF-NSMF035-2; Supplier 2: Digi-Key; Supplier 2 Part Number: MF-NSMF035-2TR-ND; Supplier 3: thegioiic; Supplier 3 Part Number: MF-NSMF035-2; LCSC Part #: N/A
footprint Fuse_SMD_1206 (Fuse SMD, size 1206)
pins: 0, 1

## 061206200006
designator F?, comment 6V, 2A
Resettable Fuse, Size 1206, 6V, 2A; Manufacturer: Bourns; Manufacturer Part Number: MF-NSMF200-2; Threshold Current: 100A; Trip Current: 4A; Threshold Voltage: 6V; Hold Current: 2A; ComponentLink1Description: Datasheet; ComponentLink1URL: https://www.bourns.com/docs/product-datasheets/mf-nsmf.pdf?sfvrsn=39c76af6_20; Supplier 1 URL: https://www.mouser.vn/ProductDetail/Bourns/MF-NSMF200-2?qs=49157WxD7wmY0%2FO7FNMvtw%3D%3D; Supplier 2 URL: https://www.mouser.vn/ProductDetail/Bourns/MF-NSMF200-2?qs=49157WxD7wmY0%2FO7FNMvtw%3D%3D; Supplier 3 URL: https://www.thegioiic.com/mf-nsmf200-2-cau-chi-tu-phuc-hoi-1206-6v-2a; Value: 6V, 2A; Mount: SMD/SMT; Package / Case: 1206; Packaging: Tape and Reel; Supplier 1: Mouser; Supplier 1 Part Number: 652-MF-NSMF200-2; Supplier 2: Digi-Key; Supplier 2 Part Number: MF-NSMF200-2TR-ND; Supplier 3: thegioiic; Supplier 3 Part Number: MF-NSMF200-2; LCSC Part #: N/A
footprint Fuse_SMD_1206 (Fuse SMD, size 1206)
pins: 0, 1

## 061812020030
designator F?, comment 30V, 0.2A
Resettable Fuse, Size 1812, 30V, 0.2A; Manufacturer: Bourns; Manufacturer Part Number: MF-MSMF020-2; Threshold Current: 80A; Trip Current: 0.4A; Threshold Voltage: 30V; Hold Current: 0.2A; ComponentLink1Description: Datasheet; ComponentLink1URL: https://www.bourns.com/docs/Product-Datasheets/mfnsmf.pdf; Supplier 1 URL: https://www.mouser.vn/ProductDetail/Bourns/MF-MSMF020-2?qs=YYkh393lUtjbPn24kFIUNQ%3D%3D; Supplier 2 URL: https://www.mouser.vn/ProductDetail/Bourns/MF-MSMF020-2?qs=YYkh393lUtjbPn24kFIUNQ%3D%3D; Supplier 3 URL: https://www.thegioiic.com/mf-msmf020-2-cau-chi-tu-phuc-hoi-1812-0-20a-30v; Value: 30V, 0.2A; Mount: SMD/SMT; Package / Case: 1812; Packaging: Tape and Reel; Supplier 1: Mouser; Supplier 1 Part Number: 652-MF-MSMF020-2; Supplier 2: Digi-Key; Supplier 2 Part Number: MF-MSMF020-2TR-ND; Supplier 3: thegioiic; Supplier 3 Part Number: MF-MSMF020-2; LCSC Part #: C35456
footprint Fuse_SMD_1812 (Fuse SMD, size 1812)
pins: 0, 1

## 061812030024
designator F?, comment 24 V, 0.3 A
Resettable Fuse, Size 1812, 24V, 1.1A; Manufacturer: Bourns; Manufacturer Part Number: MF-MSMF030-2; Threshold Current: 10 A; Hold Current: 300 mA; Trip Current: 600 mA; Threshold Voltage: 24V; ComponentLink1Description: Datasheet; ComponentLink1URL: https://www.bourns.com/docs/Product-Datasheets/mfnsmf.pdf; Supplier 1 URL: https://www.mouser.com/ProductDetail/Bourns/MF-MSMF030-2?qs=4Enggx7jqVwuh3vnyeU3lA%3D%3D; Supplier 2 URL: https://www.digikey.com/en/products/detail/bourns-inc/mf-msmf030-2/662815; Supplier 3 URL: N/A; Value: 24 V, 0.3 A; Mount: SMD/SMT; Package / Case: 1812; Packaging: Tape and Reel; Supplier 1: Mouser; Supplier 1 Part Number: 652-MF-MSMF030-2; Supplier 2: Digi-Key; Supplier 2 Part Number: MF-MSMF030-2TR-ND; Supplier 3: thegioiic; Supplier 3 Part Number: N/A; LCSC Part #: C12604
footprint Fuse_SMD_1812 (Fuse SMD, size 1812)
pins: 0, 1

## 061812050015
designator F?, comment 15V, 0.5A
Resettable Fuse, Size 1812, 15V, 0.5A; Manufacturer: Bourns; Manufacturer Part Number: MF-MSMF050-2; Threshold Current: 100A; Trip Current: 1A; Threshold Voltage: 15V; Hold Current: 0.5A; ComponentLink1Description: Datasheet; ComponentLink1URL: https://www.bourns.com/docs/Product-Datasheets/mfnsmf.pdf; Supplier 1 URL: https://www.mouser.vn/ProductDetail/Bourns/MF-MSMF050-2?qs=t3shhpq1i1DZ7OBD5kLNoA%3D%3D; Supplier 2 URL: https://www.mouser.vn/ProductDetail/Bourns/MF-MSMF050-2?qs=t3shhpq1i1DZ7OBD5kLNoA%3D%3D; Supplier 3 URL: https://www.thegioiic.com/mf-msmf050-2-cau-chi-tu-phuc-hoi-1812-15v-0-5a; Value: 15V, 0.5A; Mount: SMD/SMT; Package / Case: 1812; Packaging: Tape and Reel; Supplier 1: Mouser; Supplier 1 Part Number: 652-MF-MSMF050-2; Supplier 2: Digi-Key; Supplier 2 Part Number: MF-MSMF050-2TR-ND; Supplier 3: thegioiic; Supplier 3 Part Number: MF-MSMF050-2; LCSC Part #: C17313
footprint Fuse_SMD_1812 (Fuse SMD, size 1812)
pins: 0, 1

## 061812075013
designator F?, comment 13.2V, 0.75A
Resettable Fuse, Size 1812, 13.2V, 0.75A; Manufacturer: Littelfuse; Manufacturer Part Number: MINISMDC075F-2; Threshold Voltage: 13V; Threshold Current: 100A; Trip Current: 1.5A; Hold Current: 0.75A; ComponentLink1Description: Datasheet; ComponentLink1URL: https://www.littelfuse.com/~/media/electronics/product_specifications/resettable_ptcs/littelfuse_ptc_minismdc075f_2_product_specification.pdf.pdf; Supplier 1 URL: https://www.mouser.vn/ProductDetail/Littelfuse/MINISMDC075F-2?qs=k5V78Jg%2Feq6mspvURJRgsw%3D%3D; Supplier 2 URL: https://www.mouser.vn/ProductDetail/Littelfuse/MINISMDC075F-2?qs=k5V78Jg%2Feq6mspvURJRgsw%3D%3D; Supplier 3 URL: https://www.thegioiic.com/minismdc075f-2-cau-chi-tu-phuc-hoi-1812-13v-750ma; Value: 13.2V, 0.75A; Mount: SMD/SMT; Package / Case: 1812; Packaging: Tape and Reel; Supplier 1: Mouser; Supplier 1 Part Number: 650-MINISMDC075F-2; Supplier 2: Digi-Key; Supplier 2 Part Number: MINISMDC075F-2TR-ND; Supplier 3: thegioiic; Supplier 3 Part Number: MINISMDC075F-2; LCSC Part #: N/A
footprint Fuse_SMD_1812 (Fuse SMD, size 1812)
pins: 0, 1

## 061812075024
designator F?, comment 24V, 0.75A
Resettable Fuse, Size 1812, 24V, 0.75A; Manufacturer: Bourns; Manufacturer Part Number: MF-MSMF075/24-2; Threshold Current: 40A; Trip Current: 1.5A; Threshold Voltage: 24V; Hold Current: 0.75A; ComponentLink1Description: Datasheet; ComponentLink1URL: https://www.bourns.com/docs/Product-Datasheets/mfnsmf.pdf; Supplier 1 URL: https://www.mouser.vn/ProductDetail/Bourns/MF-MSMF075-24-2?qs=4wQOTo1SlKkr8xXCy%2FQ4UA%3D%3D; Supplier 2 URL: https://www.mouser.vn/ProductDetail/Bourns/MF-MSMF075-24-2?qs=4wQOTo1SlKkr8xXCy%2FQ4UA%3D%3D; Supplier 3 URL: https://www.thegioiic.com/mf-msmf075-24-2-cau-chi-tu-phuc-hoi-1812-24v-0-75a; Value: 24V, 0.75A; Mount: SMD/SMT; Package / Case: 1812; Packaging: Tape and Reel; Supplier 1: Mouser; Supplier 1 Part Number: 652-MF-MSMF075/24-2; Supplier 2: Digi-Key; Supplier 2 Part Number: MF-MSMF075/24-2TR-ND; Supplier 3: thegioiic; Supplier 3 Part Number: MF-MSMF075/24-2; LCSC Part #: C208467
footprint Fuse_SMD_1812 (Fuse SMD, size 1812)
pins: 0, 1

## 061812110016
designator F?, comment 16V, 1.1A
Resettable Fuse, Size 1812, 16V, 1.1A; Manufacturer: Bourns; Manufacturer Part Number: MF-MSMF110/16-2; Threshold Current: 100A; Trip Current: 2.2A; Threshold Voltage: 16V; Hold Current: 1.1A; ComponentLink1Description: Datasheet; ComponentLink1URL: https://www.bourns.com/docs/Product-Datasheets/mfnsmf.pdf; Supplier 1 URL: https://www.mouser.vn/ProductDetail/Bourns/MF-MSMF110-16-2?qs=wksszfECgvir54ST3ixUHA%3D%3D; Supplier 2 URL: https://www.mouser.vn/ProductDetail/Bourns/MF-MSMF110-16-2?qs=wksszfECgvir54ST3ixUHA%3D%3D; Supplier 3 URL: https://www.thegioiic.com/mf-msmf110-16-2-cau-chi-tu-phuc-hoi-1812-16v-1-1a; Value: 16V, 1.1A; Mount: SMD/SMT; Package / Case: 1812; Packaging: Tape and Reel; Supplier 1: Mouser; Supplier 1 Part Number: 652-MF-MSMF110/16-2; Supplier 2: Digi-Key; Supplier 2 Part Number: MF-MSMF110/16-2TR-ND; Supplier 3: thegioiic; Supplier 3 Part Number: MF-MSMF110/16-2; LCSC Part #: N/A
footprint Fuse_SMD_1812 (Fuse SMD, size 1812)
pins: 0, 1

## 061812110024
designator F?, comment 24V, 1.1A
Resettable Fuse, Size 1812, 24V, 1.1A; Manufacturer: Bourns; Manufacturer Part Number: MF-MSMF110/24X-2; Threshold Current: 20A; Trip Current: 2.2A; Threshold Voltage: 24V; Hold Current: 1.1A; ComponentLink1Description: Datasheet; ComponentLink1URL: https://www.bourns.com/docs/Product-Datasheets/mfnsmf.pdf; Supplier 1 URL: https://www.mouser.vn/ProductDetail/Bourns/MF-MSMF110-24X-2?qs=tiksPeNXt0KSvkNsPEvQzw%3D%3D; Supplier 2 URL: https://www.mouser.vn/ProductDetail/Bourns/MF-MSMF110-24X-2?qs=tiksPeNXt0KSvkNsPEvQzw%3D%3D; Supplier 3 URL: https://www.thegioiic.com/mf-msmf110-24x-2-cau-chi-tu-phuc-hoi-1812-24v-1-1a; Value: 24V, 1.1A; Mount: SMD/SMT; Package / Case: 1812; Packaging: Tape and Reel; Supplier 1: Mouser; Supplier 1 Part Number: 652-MF-MSMF110/24X-2; Supplier 2: Digi-Key; Supplier 2 Part Number: MF-MSMF110/24X-2TR-ND; Supplier 3: thegioiic; Supplier 3 Part Number: MF-MSMF110/24X-2; LCSC Part #: C210835
footprint Fuse_SMD_1812 (Fuse SMD, size 1812)
pins: 0, 1

## 061812150024
designator F?, comment 24V, 1.5A
Resettable Fuse, Size 1812, 24V, 1.5A; Manufacturer: Littelfuse; Manufacturer Part Number: MINISMDC150F/24; Threshold Current: 20A; Trip Current: 3A; Threshold Voltage: 24V; Hold Current: 1.5A; ComponentLink1Description: Datasheet; ComponentLink1URL: https://www.littelfuse.com/~/media/electronics/product_specifications/resettable_ptcs/littelfuse_ptc_minismdc300f_2_product_specification.pdf.pdf; Supplier 1 URL: https://www.mouser.vn/ProductDetail/Littelfuse/MINISMDC150F-24-2?qs=F6FIpiMdEVZ%2Fp37J%2FDHAxA%3D%3D; Supplier 2 URL: https://www.mouser.vn/ProductDetail/Littelfuse/MINISMDC150F-24-2?qs=F6FIpiMdEVZ%2Fp37J%2FDHAxA%3D%3D; Supplier 3 URL: https://www.thegioiic.com/cau-chi-tu-phuc-hoi-1812-24v-1-5a; Value: 24V, 1.5A; Mount: SMD/SMT; Package / Case: 1812; Packaging: Tape and Reel; Supplier 1: Mouser; Supplier 1 Part Number: 650-MINISMDC150F/24; Supplier 2: Digi-Key; Supplier 2 Part Number: MINISMDC150F24-2TR-ND; Supplier 3: thegioiic; Supplier 3 Part Number: N/A; LCSC Part #: N/A
footprint Fuse_SMD_1812 (Fuse SMD, size 1812)
pins: 0, 1

## 061812160009
designator F?, comment 9V, 1.6A
Resettable Fuse, Size 1812, 9V, 1.6A; Manufacturer: Littelfuse; Manufacturer Part Number: MINISMDC160F-2; Threshold Current: 100A; Trip Current: 3.2A; Threshold Voltage: 9V; Hold Current: 1.6A; ComponentLink1Description: Datasheet; ComponentLink1URL: https://www.littelfuse.com/~/media/electronics/product_specifications/resettable_ptcs/littelfuse_ptc_minismdc300f_2_product_specification.pdf.pdf; Supplier 1 URL: https://www.mouser.vn/ProductDetail/Littelfuse/miniSMDC160F-2?qs=F6FIpiMdEVaTu%252B225tqW3A%3D%3D; Supplier 2 URL: https://www.mouser.vn/ProductDetail/Littelfuse/miniSMDC160F-2?qs=F6FIpiMdEVaTu%252B225tqW3A%3D%3D; Supplier 3 URL: https://www.thegioiic.com/cau-chi-tu-phuc-hoi-1812-9v-1-6a; Value: 9V, 1.6A; Mount: SMD/SMT; Package / Case: 1812; Packaging: Tape and Reel; Supplier 1: Mouser; Supplier 1 Part Number: 650-MINISMDC160F-2; Supplier 2: Digi-Key; Supplier 2 Part Number: MINISMDC160F-2TR-ND; Supplier 3: thegioiic; Supplier 3 Part Number: N/A; LCSC Part #: N/A
footprint Fuse_SMD_1812 (Fuse SMD, size 1812)
pins: 0, 1

## 061812200008
designator F?, comment 8V, 2A
Resettable Fuse, Size 1812, 8V, 2A; Manufacturer: Littelfuse; Manufacturer Part Number: MINISMDC200F-2; Threshold Current: 100A; Trip Current: 4A; Threshold Voltage: 8V; Hold Current: 2A; ComponentLink1Description: Datasheet; ComponentLink1URL: https://www.littelfuse.com/~/media/electronics/product_specifications/resettable_ptcs/littelfuse_ptc_minismdc300f_2_product_specification.pdf.pdf; Supplier 1 URL: https://www.mouser.vn/ProductDetail/Littelfuse/MINISMDC200F-2?qs=F6FIpiMdEVbPu4q%2F42CC1w%3D%3D; Supplier 2 URL: https://www.mouser.vn/ProductDetail/Littelfuse/MINISMDC200F-2?qs=F6FIpiMdEVbPu4q%2F42CC1w%3D%3D; Supplier 3 URL: https://www.thegioiic.com/cau-chi-tu-phuc-hoi-1812-8v-2a; Value: 8V, 2A; Mount: SMD/SMT; Package / Case: 1812; Packaging: Tape and Reel; Supplier 1: Mouser; Supplier 1 Part Number: 650-MINISMDC200F-2; Supplier 2: Digi-Key; Supplier 2 Part Number: MINISMDC200F-2TR-ND; Supplier 3: thegioiic; Supplier 3 Part Number: N/A; LCSC Part #: N/A
footprint Fuse_SMD_1812 (Fuse SMD, size 1812)
pins: 0, 1

## 061812200016
designator F?, comment 16V, 2A
Resettable Fuse, Size 1812, 16V, 2A; Manufacturer: Littelfuse; Manufacturer Part Number: MINISMDC200F/162; Threshold Current: 40A; Trip Current: 4A; Threshold Voltage: 16V; Hold Current: 2A; ComponentLink1Description: Datasheet; ComponentLink1URL: https://www.littelfuse.com/~/media/electronics/product_specifications/resettable_ptcs/littelfuse_ptc_minismdc300f_2_product_specification.pdf.pdf; Supplier 1 URL: https://www.mouser.vn/ProductDetail/Littelfuse/MINISMDC200F-16-2?qs=pBN%2FbMTRZdcH0yqkqvkPxw%3D%3D; Supplier 2 URL: https://www.mouser.vn/ProductDetail/Littelfuse/MINISMDC200F-16-2?qs=pBN%2FbMTRZdcH0yqkqvkPxw%3D%3D; Supplier 3 URL: https://www.thegioiic.com/cau-chi-tu-phuc-hoi-1812-16v-2a; Value: 16V, 2A; Mount: SMD/SMT; Package / Case: 1812; Packaging: Tape and Reel; Supplier 1: Mouser; Supplier 1 Part Number: 650-MINISMDC200F/162; Supplier 2: Digi-Key; Supplier 2 Part Number: MINISMDC200F/16-2TR-ND; Supplier 3: thegioiic; Supplier 3 Part Number: N/A; LCSC Part #: N/A
footprint Fuse_SMD_1812 (Fuse SMD, size 1812)
pins: 0, 1

## 061812250016
designator F?, comment 16V, 2.5A
Resettable Fuse, Size 1812, 16V, 2.5A; Manufacturer: Bourns; Manufacturer Part Number: MF-MSMF250/16X-2; Threshold Current: 100A; Trip Current: 5A; Threshold Voltage: 16V; Hold Current: 2.5A; ComponentLink1Description: Datasheet; ComponentLink1URL: https://www.bourns.com/docs/Product-Datasheets/mfnsmf.pdf; Supplier 1 URL: https://www.mouser.vn/ProductDetail/Bourns/MF-MSMF250-16X-2?qs=9fn1gpisni78zr7pGyDhCQ%3D%3D; Supplier 2 URL: https://www.mouser.vn/ProductDetail/Bourns/MF-MSMF250-16X-2?qs=9fn1gpisni78zr7pGyDhCQ%3D%3D; Supplier 3 URL: https://www.thegioiic.com/mf-msmf250-16-cau-chi-tu-phuc-hoi-1812-16v-2-5a; Value: 16V, 2.5A; Mount: SMD/SMT; Package / Case: 1812; Packaging: Tape and Reel; Supplier 1: Mouser; Supplier 1 Part Number: 652-MF-MSMF250/16X-2; Supplier 2: Digi-Key; Supplier 2 Part Number: MF-MSMF250/16X-2TR-ND; Supplier 3: thegioiic; Supplier 3 Part Number: MF-MSMF250/16; LCSC Part #: N/A
footprint Fuse_SMD_1812 (Fuse SMD, size 1812)
pins: 0, 1

## 061812300006
designator F?, comment 6V, 3A
Resettable Fuse, Size 1812, 6V, 3A; Manufacturer: Littelfuse; Manufacturer Part Number: MINISMDC300F-2; Threshold Current: 100A; Trip Current: 6A; Threshold Voltage: 6V; Hold Current: 3A; ComponentLink1Description: Datasheet; ComponentLink1URL: https://www.littelfuse.com/~/media/electronics/product_specifications/resettable_ptcs/littelfuse_ptc_minismdc300f_2_product_specification.pdf.pdf; Supplier 1 URL: https://www.mouser.vn/ProductDetail/Littelfuse/MINISMDC300F-2?qs=NBx1VnXdadznR1WtAMXLew%3D%3D; Supplier 2 URL: https://www.mouser.vn/ProductDetail/Littelfuse/MINISMDC300F-2?qs=NBx1VnXdadznR1WtAMXLew%3D%3D; Supplier 3 URL: https://www.thegioiic.com/cau-chi-tu-phuc-hoi-1812-6v-3a; Value: 6V, 3A; Mount: SMD/SMT; Package / Case: 1812; Packaging: Tape and Reel; Supplier 1: Mouser; Supplier 1 Part Number: 650-MINISMDC300F-2; Supplier 2: Digi-Key; Supplier 2 Part Number: MINISMDC300F-2TR-ND; Supplier 3: thegioiic; Supplier 3 Part Number: N/A; LCSC Part #: N/A
footprint Fuse_SMD_1812 (Fuse SMD, size 1812)
pins: 0, 1